# EAGLE library part LORA_IM-L400 (library angrypig7_Library)
IM-L400 SX1276 based LoRa Module https://www.sktiot.com/iot/introduction/network/networkLoraMain3
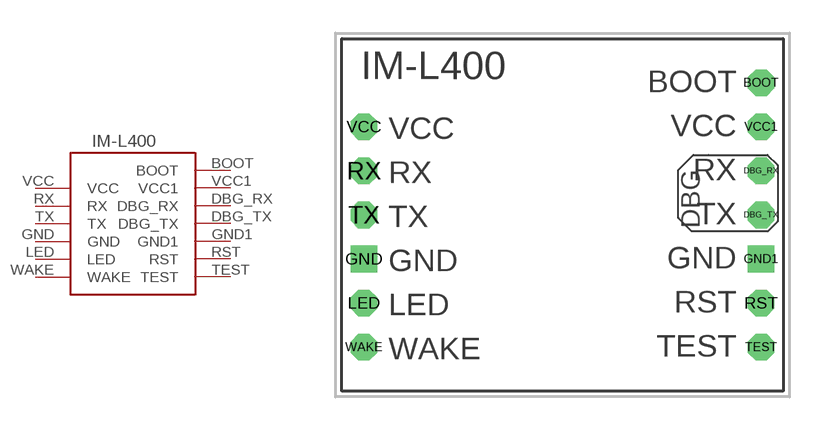
[diagram p1: symbol with the pads of LORA_IM-L400; footprint LORA_IM-L400]

Designator prefix -

## LORA_IM-L400  [LORA_IM-L400]
BOOT  BOOT
DBG_RX  DBG_RX
DBG_TX  DBG_TX
GND  GND
GND1  GND1
LED  LED
RST  RST
RX  RX
TEST  TEST
TX  TX
VCC  VCC
VCC1  VCC1
WAKE  WAKE

## Footprint LORA_IM-L400 (pad centres in mm)
drill 0.7 pad 1.2 octagon: BOOT 9,6; DBG_RX 9,2; DBG_TX 9,0; LED -9,-4; RST 9,-4; RX -9,2; TEST 9,-6; TX -9,0; VCC -9,4; VCC1 9,4; WAKE -9,-6
drill 0.7 pad 1.2 square: GND -9,-2; GND1 9,-2